# Altium schematic symbol library R-CRCW06031K50JNEA.Schlib: 1 symbol
Pins are listed as number, name and electrical type; pins without a type are passive.

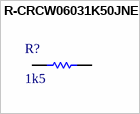
[diagram p0: symbol R-CRCW06031K50JNEA]

## R-CRCW06031K50JNEA
designator R?, comment 1k5
Thick Film Resistors - SMD 1/10watt 1.5Kohms 5%
pins: 1, 2